# EAGLE library part CY8C4013SXI-400 (library Rad)
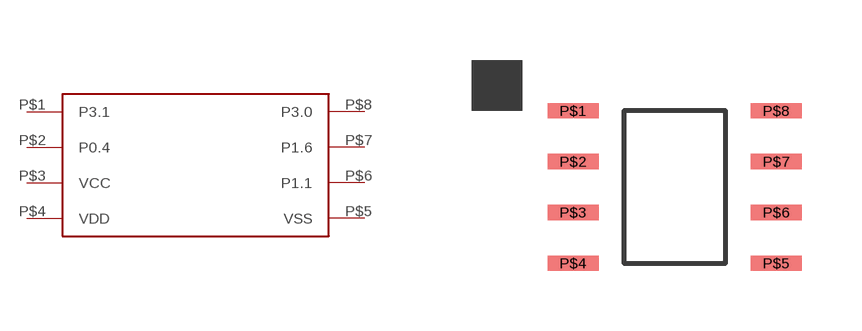
[diagram p0: symbol with the pads of SOIC8-CYPRESS; footprint SOIC8-CYPRESS]

Designator prefix -

## CY8C4013SXI-400  [SOIC8-CYPRESS]
P$1  P3.1
P$2  P0.4
P$3  VCC
P$4  VDD
P$5  VSS
P$6  P1.1
P$7  P1.6
P$8  P3.0

## Footprint SOIC8-CYPRESS (pad centres in mm)
smd 1.27 x 0.381: P$1 -2.54,1.27; P$2 -2.54,0; P$3 -2.54,-1.27; P$4 -2.54,-2.54; P$5 2.54,-2.54; P$6 2.54,-1.27; P$7 2.54,0; P$8 2.54,1.27